# EAGLE library part M37540(32PIN) (library renesas_mcu)
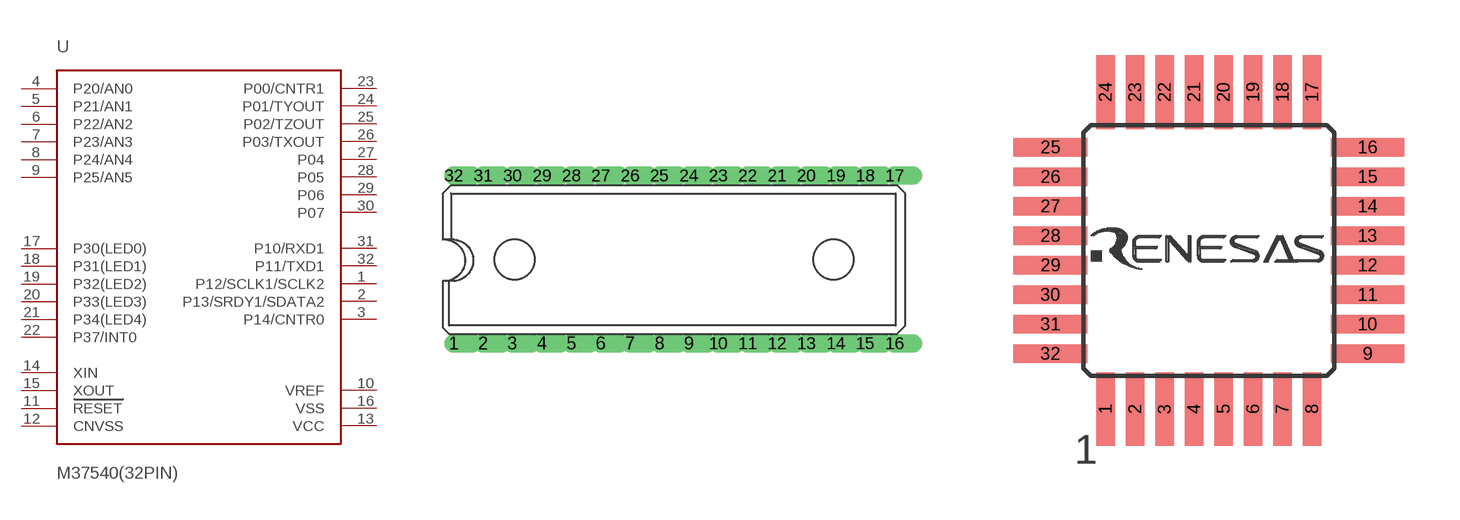
[diagram p20: symbol with the pads of 32P4B; footprints 32P4B, 32P6U-A]

Designator prefix -

## M37540(32PIN)1  [32P4B]
1  P12/SCLK1/SCLK2
2  P13/SRDY1/SDATA2
3  P14/CNTR0
4  P20/AN0
5  P21/AN1
6  P22/AN2
7  P23/AN3
8  P24/AN4
9  P25/AN5
10  VREF  in
11  RESET  in
12  CNVSS  in
13  VCC  pwr
14  XIN
15  XOUT  out
16  VSS  pwr
17  P30(LED0)
18  P31(LED1)
19  P32(LED2)
20  P33(LED3)
21  P34(LED4)
22  P37/INT0
23  P00/CNTR1
24  P01/TYOUT
25  P02/TZOUT
26  P03/TXOUT
27  P04
28  P05
29  P06
30  P07
31  P10/RXD1
32  P11/TXD1

## M37540(32PIN)2  [32P6U-A]
1  P22/AN2
2  P23/AN3
3  P24/AN4
4  P25/AN5
5  VREF  in
6  RESET  in
7  CNVSS  in
8  VCC  pwr
9  XIN
10  XOUT  out
11  VSS  pwr
12  P30(LED0)
13  P31(LED1)
14  P32(LED2)
15  P33(LED3)
16  P34(LED4)
17  P37/INT0
18  P00/CNTR1
19  P01/TYOUT
20  P02/TZOUT
21  P03/TXOUT
22  P04
23  P05
24  P06
25  P07
26  P10/RXD1
27  P11/TXD1
28  P12/SCLK1/SCLK2
29  P13/SRDY1/SDATA2
30  P14/CNTR0
31  P20/AN0
32  P21/AN1

## Footprint 32P4B (pad centres in mm)
drill 0.61 offset: 1 -13.335,-5.08; 2 -11.557,-5.08; 3 -9.779,-5.08; 4 -8.001,-5.08; 5 -6.223,-5.08; 6 -4.445,-5.08; 7 -2.667,-5.08; 8 -0.889,-5.08; 9 0.889,-5.08; 10 2.667,-5.08; 11 4.445,-5.08; 12 6.223,-5.08; 13 8.001,-5.08; 14 9.779,-5.08; 15 11.557,-5.08; 16 13.335,-5.08; 17 13.335,5.08; 18 11.557,5.08; 19 9.779,5.08; 20 8.001,5.08; 21 6.223,5.08; 22 4.445,5.08; 23 2.667,5.08; 24 0.889,5.08; 25 -0.889,5.08; 26 -2.667,5.08; 27 -4.445,5.08; 28 -6.223,5.08; 29 -8.001,5.08; 30 -9.779,5.08; 31 -11.557,5.08; 32 -13.335,5.08

## Footprint 32P6U-A (pad centres in mm)
smd 0.5 x 2: 1 -2.8,-4.3; 2 -2,-4.3; 3 -1.2,-4.3; 4 -0.4,-4.3; 5 0.4,-4.3; 6 1.2,-4.3; 7 2,-4.3; 8 2.8,-4.3; 17 2.8,4.3; 18 2,4.3; 19 1.2,4.3; 20 0.4,4.3; 21 -0.4,4.3; 22 -1.2,4.3; 23 -2,4.3; 24 -2.8,4.3
smd 2 x 0.5: 9 4.3,-2.8; 10 4.3,-2; 11 4.3,-1.2; 12 4.3,-0.4; 13 4.3,0.4; 14 4.3,1.2; 15 4.3,2; 16 4.3,2.8; 25 -4.3,2.8; 26 -4.3,2; 27 -4.3,1.2; 28 -4.3,0.4; 29 -4.3,-0.4; 30 -4.3,-1.2; 31 -4.3,-2; 32 -4.3,-2.8